# Altium schematic symbol library BuckLib.SchLib: 4 symbols
Pins are listed as number, name and electrical type; pins without a type are passive.

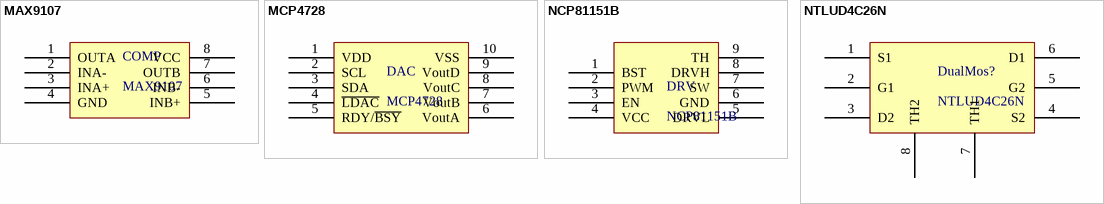
[diagram p0: symbols MAX9107 to NTLUD4C26N]

## MAX9107
designator COMP
pins: 1 OUTA, 2 INA-, 3 INA+, 4 GND, 5 INB+, 6 INB-, 7 OUTB, 8 VCC

## MCP4728
designator DAC
pins: 1 VDD, 2 SCL, 3 SDA, 4 ~{LDAC}, 5 RDY/~{BSY}, 6 VoutA, 7 VoutB, 8 VoutC, 9 VoutD, 10 VSS

## NCP81151B
designator DRV
pins: 1 BST, 2 PWM, 3 EN, 4 VCC, 5 DRVL, 6 GND, 7 SW, 8 DRVH, 9 TH

## NTLUD4C26N
designator DualMos?
pins: 1 S1, 2 G1, 3 D2, 4 S2, 5 G2, 6 D1, 7 TH1, 8 TH2